# Altium schematic symbol library 0603_Ceramic_Capacitor.SchLib: 1 symbol
Pins are listed as number, name and electrical type; pins without a type are passive.

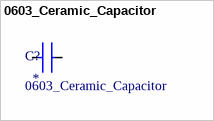
[diagram p0: symbol 0603_Ceramic_Capacitor]

## 0603_Ceramic_Capacitor
designator C?
0603 Multilayer Ceramic Capacitors MLCC - SMD/SMT ROHS; LCSC: *
footprint 0603_Ceramic_Capacitor
pins: 1, 2